# Altium footprint library ElectroSmith3_5mm.PcbLib: 1 footprints
Each footprint in its own frame and in the unit in brackets; x right, y up, seen from the top. Pads: shape width x height; smd on the part's side, far side on the other; paste and mask are expansions set on the pad; w line width, h text height; cw(c..) or ccw(c..) is an arc to the next point about the centre after c.
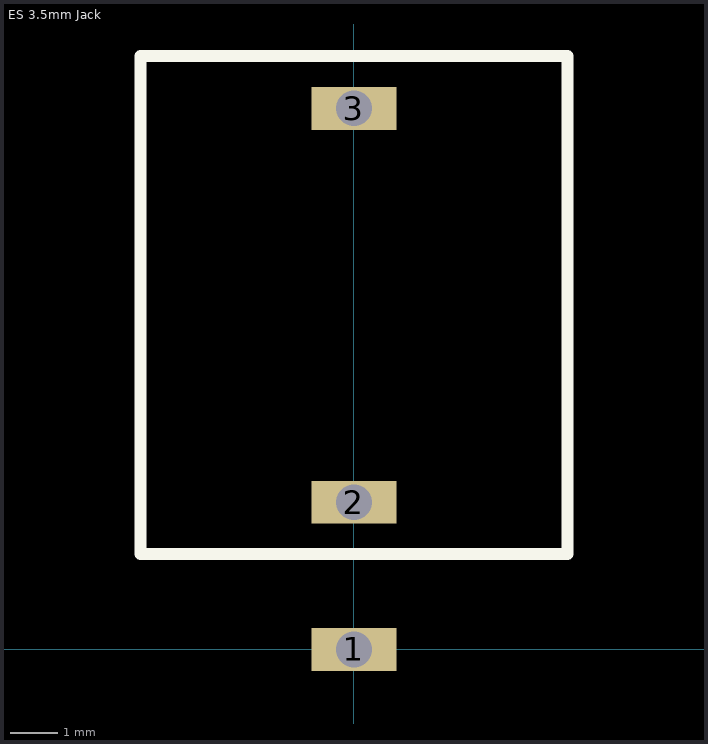
[diagram p0: the footprint, top view; thin cyan lines are the x and y axes]

## ES 3.5mm Jack [mm]
pads (3):
  rect 1.8x0.9 hole 0.75 square: 1(0,0) 2(0,3.1) 3(0,11.4)
Top Overlay:
  lines w0.254: -4.5,2.008 -4.5,12.508 4.5,12.508 4.5,2.008 -4.5,2.008